# EAGLE library part TSL256* (library edeca)
Texas Instruments TSL2560 (SMBus), TSL2561 (I2C) Light-to-digital converter
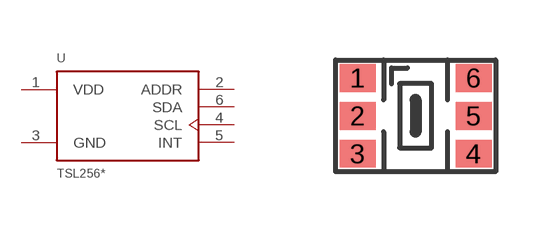
[diagram p8: symbol with the pads of TMB-6; footprint TMB-6]

Designator prefix U

## TSL2560 (INTERFACE: SMBus), TSL2561 (INTERFACE: I2C)  [TMB-6]
1  VDD  pwr
2  ADDR  in
3  GND  pwr
4  SCL  in
5  INT  out
6  SDA

## Footprint TMB-6 (pad centres in mm)
6 lead TMB package, as used by light-to-digital converters
smd 0.9 x 0.7: 1 -1.45,0.95; 2 -1.45,0; 3 -1.45,-0.95; 4 1.45,-0.95; 5 1.45,0; 6 1.45,0.95